# EAGLE library part 1X10 (library HAB)
1X10 10-pin header
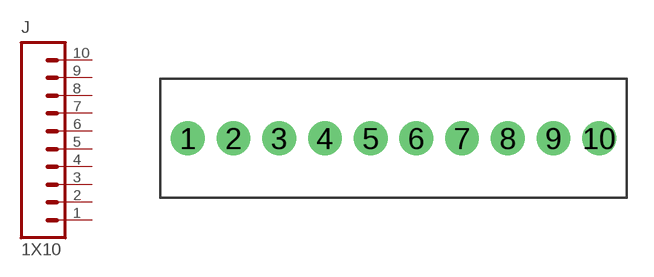
[diagram p15: symbol with the pads of 1X10_SCREW; footprint 1X10_SCREW]

Designator prefix J

## 1X10  [1X10_SCREW]
1  1  pas
2  2  pas
3  3  pas
4  4  pas
5  5  pas
6  6  pas
7  7  pas
8  8  pas
9  9  pas
10  10  pas

## Footprint 1X10_SCREW (pad centres in mm)
1X10_SCREW 10-pin 0.1" screw terminals - TE 1-282834-0
drill 1.1 pad 1.88: 1 0,0; 2 2.54,0; 3 5.08,0; 4 7.62,0; 5 10.16,0; 6 12.7,0; 7 15.24,0; 8 17.78,0; 9 20.32,0; 10 22.86,0